# Altium footprint library EMI Shileds.PcbLib: 2 footprints
Each footprint in its own frame and in the unit in brackets; x right, y up, seen from the top. Pads: shape width x height; smd on the part's side, far side on the other; paste and mask are expansions set on the pad; w line width, h text height; cw(c..) or ccw(c..) is an arc to the next point about the centre after c.
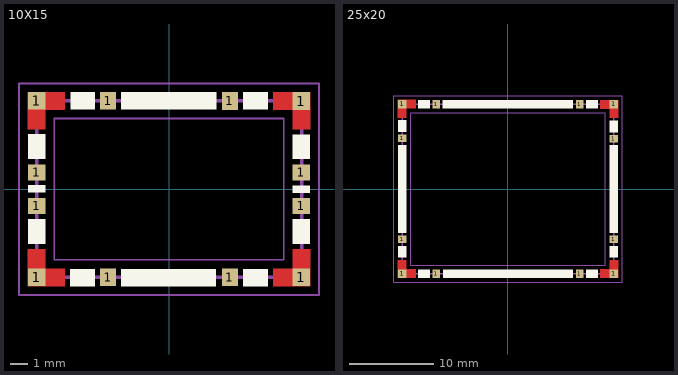
[diagram p0: the footprints below, top view; thin cyan lines are the x and y axes]

## 10X15 [mm] "EMI RFI Shield 10X15mm"
height 3
pads (12):
  rect 1x1 smd: 1(-7.5,-4.99) 1(-7.49,5) 1(7.49,4.99) 1(7.49,-4.99)
  rect 1x0.9 smd: 1(-7.5,-0.95) 1(-7.497,0.952) 1(7.49,0.95) 1(7.49,-0.95)
  rect 0.9x1 smd: 1(-3.452,-4.996) 1(-3.45,5) 1(3.442,4.996) 1(3.442,-4.996)
Top Layer:
  region: -8,3.4 -8,5.5 -5.9,5.5 -5.9,4.5 -7,4.5 -7,3.4
  region: -5.9,-5.5 -8,-5.5 -8,-3.4 -7,-3.4 -7,-4.5 -5.9,-4.5
  region: 5.89,-5.5 7.99,-5.5 7.99,-3.4 6.99,-3.4 6.99,-4.5 5.89,-4.5
  region: 5.89,5.5 7.99,5.5 7.99,3.4 6.99,3.4 6.99,4.5 5.89,4.5
Top Overlay:
  region: 2.65,-5.5 2.65,-4.51 -2.71,-4.51 -2.71,-5.5
  region: -2.71,5.5 -2.71,4.51 2.69,4.51 2.69,5.5
  region: 7.99,3.1 7,3.1 7,1.7 7.99,1.7
  region: 5.59,-5.51 5.59,-4.52 4.19,-4.52 4.19,-5.51
  region: -4.19,4.52 -4.19,5.51 -5.59,5.51 -5.59,4.52
  rectangle: -7.98,1.72 -6.99,3.13
  region: -7,-1.7 -7.99,-1.7 -7.99,-3.1 -7,-3.1
  region: -4.2,-5.5 -4.2,-4.51 -5.6,-4.51 -5.6,-5.5
  region: 7.99,-1.7 7,-1.7 7,-3.1 7.99,-3.1
  region: 4.2,5.5 4.2,4.51 5.59,4.51 5.59,5.5
  rectangle: -8,-0.19 -7.01,0.23
  rectangle: 7,-0.22 7.99,0.2
Mechanical 13:
  lines w0.2: -7.5,-5 7.5,-5 7.5,5 -7.5,5 -7.5,-5
Mechanical 15:
  lines w0.1: -8.5,-6 8.49,-6 8.49,5.99 -8.5,5.99 -8.5,-6 ; -6.5,-4 -6.5,4.01 6.49,4.01 6.49,-4 -6.5,-4

## 25x20 [mm] "EMI RFI Shield 25x20mm"
height 3
pads (12):
  rect 1x0.9 smd: 1(-12.496,5.972) 1(-12.49,-5.95) 1(12.51,5.95) 1(12.51,-5.95)
  rect 1x1 smd: 1(-12.49,10.02) 1(-12.49,-9.99) 1(12.51,9.99) 1(12.51,-9.99)
  rect 0.9x1 smd: 1(-8.45,10.02) 1(-8.442,-9.996) 1(8.462,9.996) 1(8.462,-9.996)
Top Layer:
  region: -13,8.42 -13,10.52 -10.9,10.52 -10.9,9.52 -12,9.52 -12,8.42
  region: -10.89,-10.5 -12.99,-10.5 -12.99,-8.4 -11.99,-8.4 -11.99,-9.5 -10.89,-9.5
  region: 10.91,-10.5 13.01,-10.5 13.01,-8.4 12.01,-8.4 12.01,-9.5 10.91,-9.5
  region: 10.91,10.5 13.01,10.5 13.01,8.4 12.01,8.4 12.01,9.5 10.91,9.5
Top Overlay:
  rectangle: 12.02,-5.22 13.01,5.2
  region: -7.7,10.5 -7.7,9.51 7.71,9.51 7.71,10.5
  region: 13.01,8.1 12.02,8.1 12.02,6.7 13.01,6.7
  region: 10.61,-10.51 10.61,-9.52 9.21,-9.52 9.21,-10.51
  region: -9.2,9.52 -9.2,10.51 -10.6,10.51 -10.6,9.52
  rectangle: -12.99,6.72 -12,8.13
  region: -11.99,-6.7 -12.98,-6.7 -12.98,-8.1 -11.99,-8.1
  region: -9.19,-10.5 -9.19,-9.51 -10.59,-9.51 -10.59,-10.5
  region: 13.01,-6.7 12.02,-6.7 12.02,-8.1 13.01,-8.1
  region: 9.22,10.5 9.22,9.51 10.61,9.51 10.61,10.5
  region: -7.69,-9.51 -7.69,-10.5 7.71,-10.5 7.71,-9.51
  rectangle: -12.98,-5.2 -11.99,5.22
Mechanical 13:
  lines w0.2: -12.49,-10 12.51,-10 12.51,10 -12.49,10 -12.49,-10
Mechanical 15:
  lines w0.1: -13.49,-11 13.51,-11 13.51,11 -13.49,11 -13.49,-11 ; -11.49,-9 -11.49,9 11.51,9 11.51,-9 -11.49,-9